# Altium footprint library PH8X2Pin.PcbLib: 1 footprints
Each footprint in its own frame and in the unit in brackets; x right, y up, seen from the top. Pads: shape width x height; smd on the part's side, far side on the other; paste and mask are expansions set on the pad; w line width, h text height; cw(c..) or ccw(c..) is an arc to the next point about the centre after c.
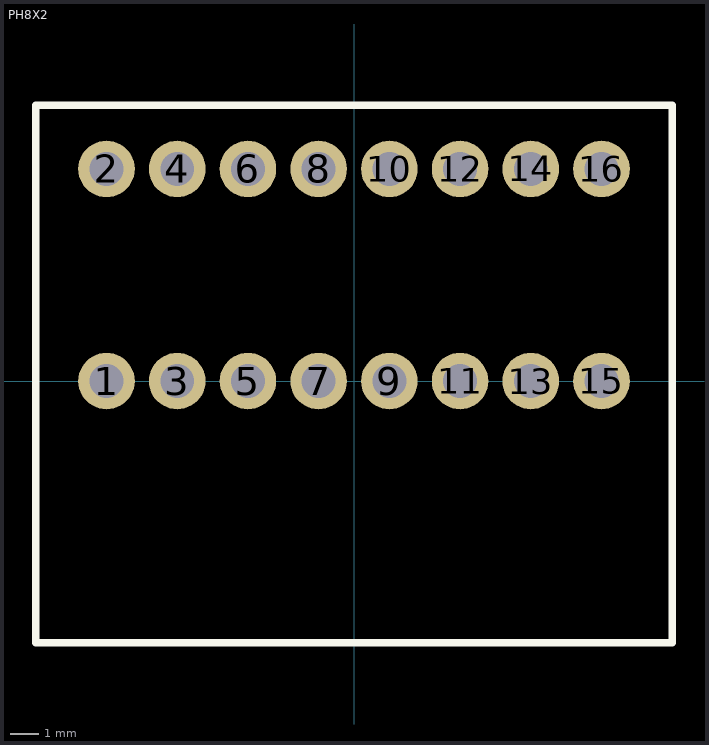
[diagram p0: the footprint, top view; thin cyan lines are the x and y axes]

## PH8X2 [mm]
pads (16):
  round 2 hole 1.2: 1(-8.75,0) 2(-8.75,7.5) 3(-6.25,0) 4(-6.25,7.5) 5(-3.75,0) 6(-3.75,7.5) 7(-1.25,0) 8(-1.25,7.5) 9(1.25,0) 10(1.25,7.5) 11(3.75,0) 12(3.75,7.5) 13(6.25,0) 14(6.25,7.5) 15(8.75,0) 16(8.75,7.5)
Top Overlay:
  lines w0.254: -11.25,-9.25 -11.25,9.75 11.25,9.75 11.25,-9.25 -11.25,-9.25